# Altium schematic symbol library SN74LV1T34DBVR.SchLib: 1 symbol
Pins are listed as number, name and electrical type; pins without a type are passive.

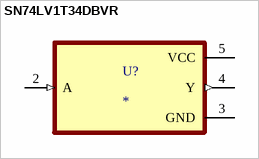
[diagram p0: symbol SN74LV1T34DBVR]

## SN74LV1T34DBVR
designator U?
Single Power Supply BUFFER Logic Level Shifter (no enable); MF: Texas Instruments; MP: SN74LV1T34DBVR; SnapEDA_Link: https://www.snapeda.com/parts/SN74LV1T34DBVR/Texas+Instruments/view-part/?ref=snap; Package: SOT-23-5 Texas Instruments; Value: *; Check_prices: https://www.snapeda.com/parts/SN74LV1T34DBVR/Texas+Instruments/view-part/?ref=eda
footprint SOT95P280X145-5N
pins: 2 A (in), 3 GND (power), 4 Y (out), 5 VCC (power)